# Altium schematic symbol library LM358.SCHLIB: 1 symbol
Pins are listed as number, name and electrical type; pins without a type are passive.

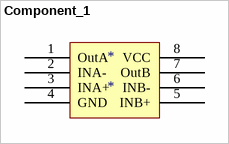
[diagram p0: symbol Component_1]

## Component_1
designator *
pins: 1 OutA, 2 INA-, 3 INA+, 4 GND, 5 INB+, 6 INB-, 7 OutB, 8 VCC